# Altium schematic symbol library APDS-9960.SchLib: 1 symbol
Pins are listed as number, name and electrical type; pins without a type are passive.

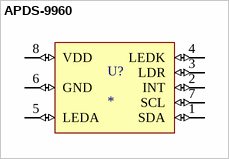
[diagram p0: symbol APDS-9960]

## APDS-9960
designator U?
Light to Digital Ambient Light Sensor Digital 3V 8-Pin T/R; MF: Avago Technologies; SnapEDA_Link: https://www.snapeda.com/parts/APDS-9960/Avago+Technologies+US+Inc./view-part/?ref=snap; Package: None; Value: *; MP: APDS-9960; Check_prices: https://www.snapeda.com/parts/APDS-9960/Avago+Technologies+US+Inc./view-part/?ref=eda
footprint APDS-9960
pins: 1 SDA (io), 2 INT (io), 3 LDR (io), 4 LEDK (io), 5 LEDA (io), 6 GND (io), 7 SCL (io), 8 VDD (io)